# Altium schematic symbol library SIMBOLS_CPU_MCU.SchLib: 25 symbols
Pins are listed as number, name and electrical type; pins without a type are passive.

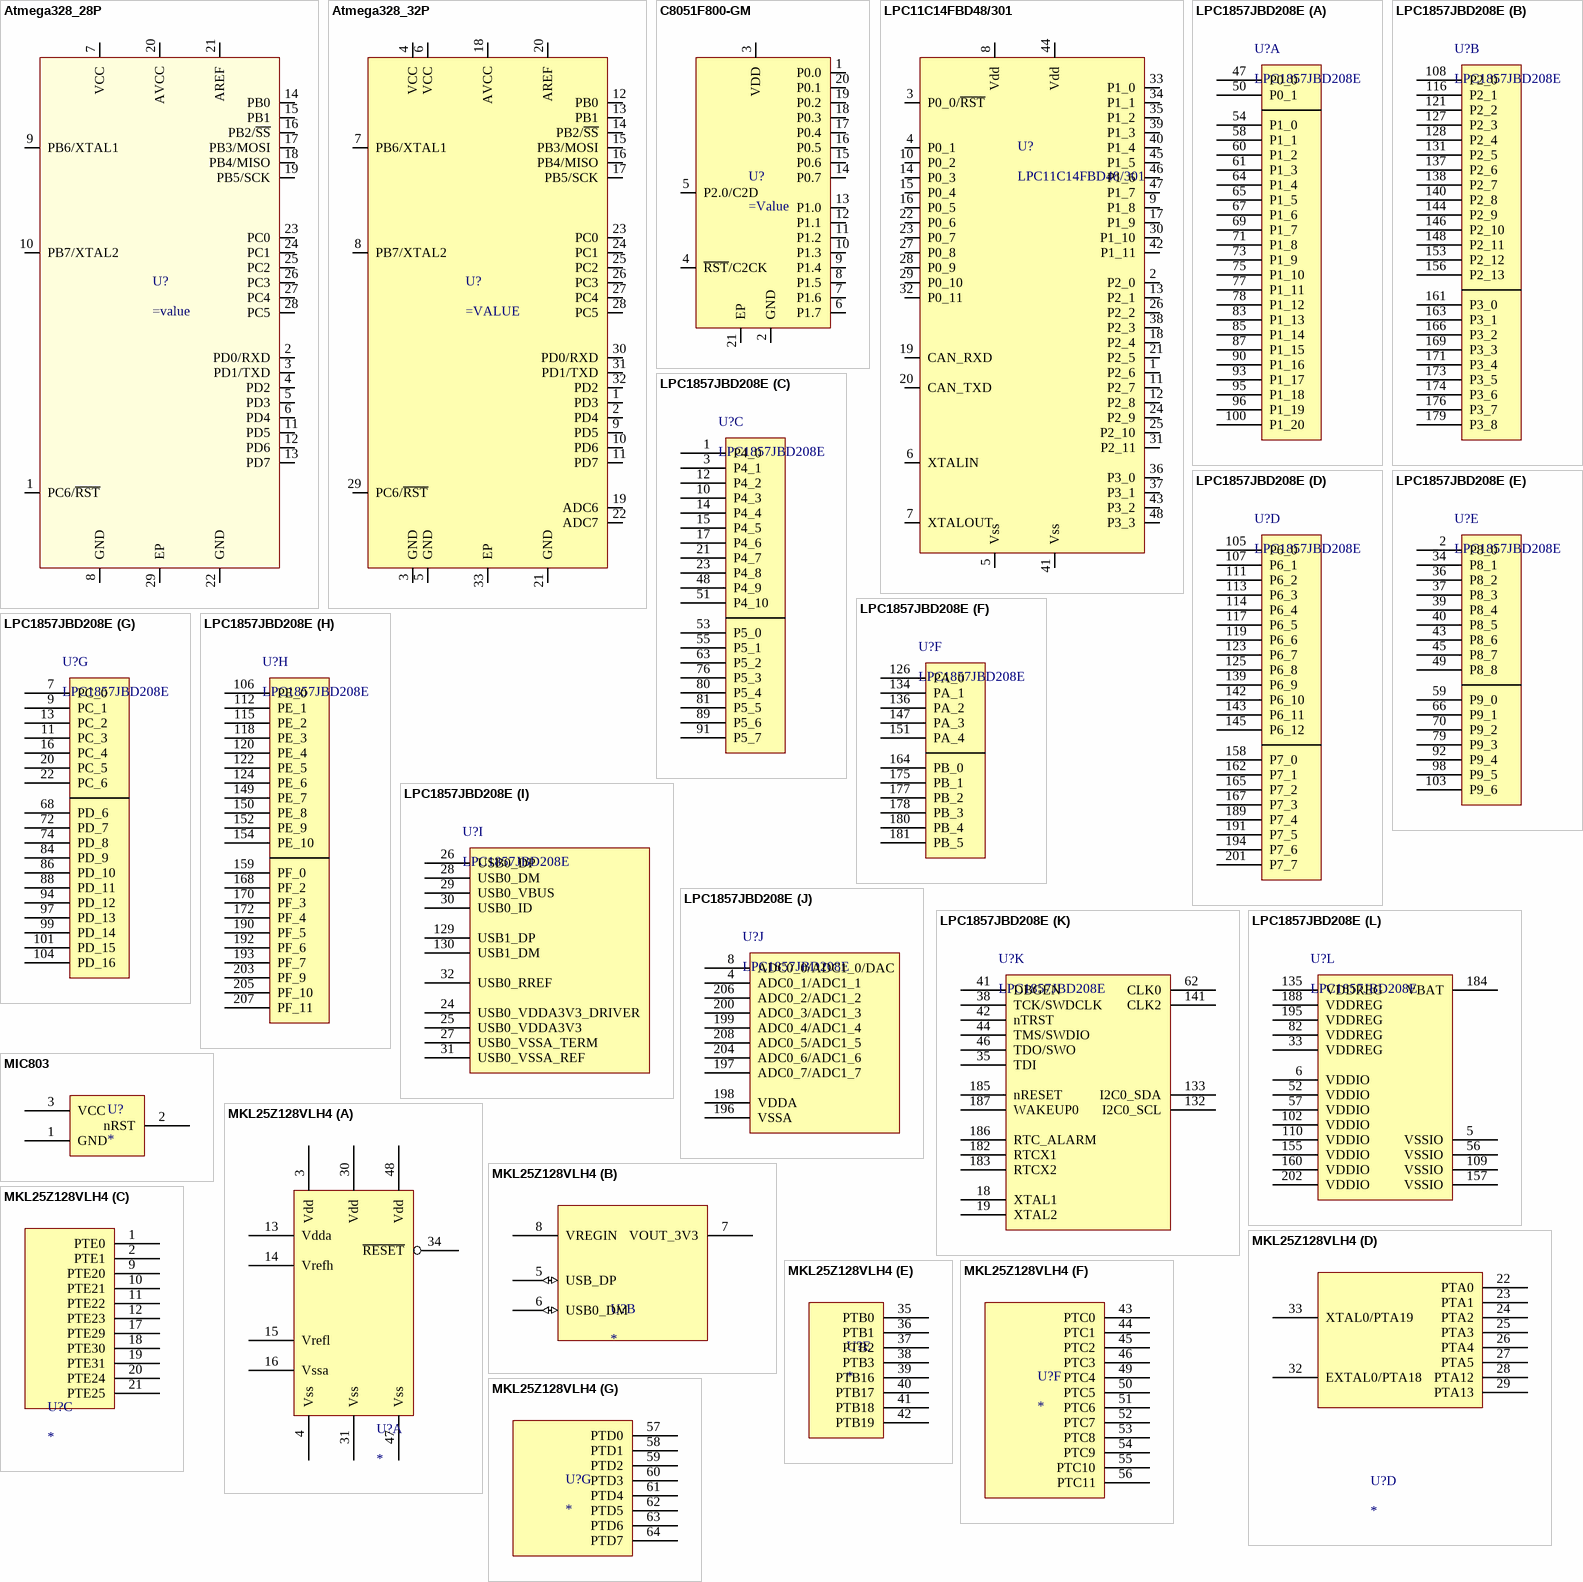
[diagram p0: symbols Atmega328_28P to MKL25Z128VLH4]

## Atmega328_28P
designator U?
pins: 1 PC6/~{RST}, 2 PD0/RXD, 3 PD1/TXD, 4 PD2, 5 PD3, 6 PD4, 7 VCC, 8 GND, 9 PB6/XTAL1, 10 PB7/XTAL2, 11 PD5, 12 PD6, 13 PD7, 14 PB0, 15 PB1, 16 PB2/~{SS}, 17 PB3/MOSI, 18 PB4/MISO, 19 PB5/SCK, 20 AVCC, 21 AREF, 22 GND, 23 PC0, 24 PC1, 25 PC2, 26 PC3, 27 PC4, 28 PC5, 29 EP

## Atmega328_32P
designator U?
pins: 1 PD3, 2 PD4, 3 GND, 4 VCC, 5 GND, 6 VCC, 7 PB6/XTAL1, 8 PB7/XTAL2, 9 PD5, 10 PD6, 11 PD7, 12 PB0, 13 PB1, 14 PB2/~{SS}, 15 PB3/MOSI, 16 PB4/MISO, 17 PB5/SCK, 18 AVCC, 19 ADC6, 20 AREF, 21 GND, 22 ADC7, 23 PC0, 24 PC1, 25 PC2, 26 PC3, 27 PC4, 28 PC5, 29 PC6/~{RST}, 30 PD0/RXD, 31 PD1/TXD, 32 PD2, 33 EP

## C8051F800-GM
designator U?
pins: 1 P0.0, 2 GND, 3 VDD, 4 ~{RST}/C2CK, 5 P2.0/C2D, 6 P1.7, 7 P1.6, 8 P1.5, 9 P1.4, 10 P1.3, 11 P1.2, 12 P1.1, 13 P1.0, 14 P0.7, 15 P0.6, 16 P0.5, 17 P0.4, 18 P0.3, 19 P0.2, 20 P0.1, 21 EP

## LPC11C14FBD48/301
designator U?
footprint SQFP50P900X900-48M (Shrink QFP, 48-Leads, Body 7x7mm, Pitch 0.5mm, IPC Low Density)
pins: 1 P2_6, 2 P2_0, 3 P0_0/~{RST}, 4 P0_1, 5 Vss, 6 XTALIN, 7 XTALOUT, 8 Vdd (power), 9 P1_8, 10 P0_2, 11 P2_7, 12 P2_8, 13 P2_1, 14 P0_3, 15 P0_4, 16 P0_5, 17 P1_9, 18 P2_4, 19 CAN_RXD, 20 CAN_TXD, 21 P2_5, 22 P0_6, 23 P0_7, 24 P2_9, 25 P2_10, 26 P2_2, 27 P0_8, 28 P0_9, 29 P0_10, 30 P1_10, 31 P2_11, 32 P0_11, 33 P1_0, 34 P1_1, 35 P1_2, 36 P3_0, 37 P3_1, 38 P2_3, 39 P1_3, 40 P1_4, 41 Vss, 42 P1_11, 43 P3_2, 44 Vdd (power), 45 P1_5, 46 P1_6, 47 P1_7, 48 P3_3

## LPC1857JBD208E
designator U?
footprint SQFP50P3000X3000-208N (Shrink QFP, 208-Leads, Body 28x28mm, Pitch 0.5mm, IPC Medium Density)
part A pins: 47 P0_0, 50 P0_1, 54 P1_0, 58 P1_1, 60 P1_2, 61 P1_3, 64 P1_4, 65 P1_5, 67 P1_6, 69 P1_7, 71 P1_8, 73 P1_9, 75 P1_10, 77 P1_11, 78 P1_12, 83 P1_13, 85 P1_14, 87 P1_15, 90 P1_16, 93 P1_17, 95 P1_18, 96 P1_19, 100 P1_20
part B pins: 108 P2_0, 116 P2_1, 121 P2_2, 127 P2_3, 128 P2_4, 131 P2_5, 137 P2_6, 138 P2_7, 140 P2_8, 144 P2_9, 146 P2_10, 148 P2_11, 153 P2_12, 156 P2_13, 161 P3_0, 163 P3_1, 166 P3_2, 169 P3_3, 171 P3_4, 173 P3_5, 174 P3_6, 176 P3_7, 179 P3_8
part C pins: 1 P4_0, 3 P4_1, 10 P4_3, 12 P4_2, 14 P4_4, 15 P4_5, 17 P4_6, 21 P4_7, 23 P4_8, 48 P4_9, 51 P4_10, 53 P5_0, 55 P5_1, 63 P5_2, 76 P5_3, 80 P5_4, 81 P5_5, 89 P5_6, 91 P5_7
part D pins: 105 P6_0, 107 P6_1, 111 P6_2, 113 P6_3, 114 P6_4, 117 P6_5, 119 P6_6, 123 P6_7, 125 P6_8, 139 P6_9, 142 P6_10, 143 P6_11, 145 P6_12, 158 P7_0, 162 P7_1, 165 P7_2, 167 P7_3, 189 P7_4, 191 P7_5, 194 P7_6, 201 P7_7
part E pins: 2 P8_0, 34 P8_1, 36 P8_2, 37 P8_3, 39 P8_4, 40 P8_5, 43 P8_6, 45 P8_7, 49 P8_8, 59 P9_0, 66 P9_1, 70 P9_2, 79 P9_3, 92 P9_4, 98 P9_5, 103 P9_6
part F pins: 126 PA_0, 134 PA_1, 136 PA_2, 147 PA_3, 151 PA_4, 164 PB_0, 175 PB_1, 177 PB_2, 178 PB_3, 180 PB_4, 181 PB_5
part G pins: 7 PC_0, 9 PC_1, 11 PC_3, 13 PC_2, 16 PC_4, 20 PC_5, 22 PC_6, 68 PD_6, 72 PD_7, 74 PD_8, 84 PD_9, 86 PD_10, 88 PD_11, 94 PD_12, 97 PD_13, 99 PD_14, 101 PD_15, 104 PD_16
part H pins: 106 PE_0, 112 PE_1, 115 PE_2, 118 PE_3, 120 PE_4, 122 PE_5, 124 PE_6, 149 PE_7, 150 PE_8, 152 PE_9, 154 PE_10, 159 PF_0, 168 PF_2, 170 PF_3, 172 PF_4, 190 PF_5, 192 PF_6, 193 PF_7, 203 PF_9, 205 PF_10, 207 PF_11
part I pins: 24 USB0_VDDA3V3_DRIVER, 25 USB0_VDDA3V3, 26 USB0_DP, 27 USB0_VSSA_TERM, 28 USB0_DM, 29 USB0_VBUS, 30 USB0_ID, 31 USB0_VSSA_REF, 32 USB0_RREF, 129 USB1_DP, 130 USB1_DM
part J pins: 4 ADC0_1/ADC1_1, 8 ADC0_0/ADC1_0/DAC, 196 VSSA, 197 ADC0_7/ADC1_7, 198 VDDA, 199 ADC0_4/ADC1_4, 200 ADC0_3/ADC1_3, 204 ADC0_6/ADC1_6, 206 ADC0_2/ADC1_2, 208 ADC0_5/ADC1_5
part K pins: 18 XTAL1, 19 XTAL2, 35 TDI, 38 TCK/SWDCLK, 41 DBGEN, 42 nTRST, 44 TMS/SWDIO, 46 TDO/SWO, 62 CLK0, 132 I2C0_SCL, 133 I2C0_SDA, 141 CLK2, 182 RTCX1, 183 RTCX2, 185 nRESET, 186 RTC_ALARM, 187 WAKEUP0
part L pins: 5 VSSIO, 6 VDDIO, 33 VDDREG, 52 VDDIO, 56 VSSIO, 57 VDDIO, 82 VDDREG, 102 VDDIO, 109 VSSIO, 110 VDDIO, 135 VDDREG, 155 VDDIO, 157 VSSIO, 160 VDDIO, 184 VBAT, 188 VDDREG, 195 VDDREG, 202 VDDIO

## MIC803
designator U?
VOLTAGE SUPERVISOR; 140ms minimum: reset dalay
footprint SOT323-3AN (SOT323, 3-Leads, Body 2.0x1.3mm, Pitch 0.65mm, Lead Span 2.1mm, IPC Medium Density)
pins: 1 GND, 2 nRST, 3 VCC

## MKL25Z128VLH4
designator U?
MKL25Z128VLH4; Supplier 1: Farnell; Supplier Part Number 1: 2293926
footprint TSQFP50P1200X1200-64L (Thin QFP, 64-Leads, Body 10x10mm, Pitch 0.5mm, IPC High Density)
part A pins: 3 Vdd (power), 4 Vss, 13 Vdda (power), 14 Vrefh, 15 Vrefl, 16 Vssa, 30 Vdd (power), 31 Vss, 34 ~{RESET}, 47 Vss (power), 48 Vdd
part B pins: 5 USB_DP (io), 6 USB0_DM (io), 7 VOUT_3V3 (power), 8 VREGIN (power)
part C pins: 1 PTE0, 2 PTE1, 9 PTE20, 10 PTE21, 11 PTE22, 12 PTE23, 17 PTE29, 18 PTE30, 19 PTE31, 20 PTE24, 21 PTE25
part D pins: 22 PTA0, 23 PTA1, 24 PTA2, 25 PTA3, 26 PTA4, 27 PTA5, 28 PTA12, 29 PTA13, 32 EXTAL0/PTA18, 33 XTAL0/PTA19
part E pins: 35 PTB0, 36 PTB1, 37 PTB2, 38 PTB3, 39 PTB16, 40 PTB17, 41 PTB18, 42 PTB19
part F pins: 43 PTC0, 44 PTC1, 45 PTC2, 46 PTC3, 49 PTC4, 50 PTC5, 51 PTC6, 52 PTC7, 53 PTC8, 54 PTC9, 55 PTC10, 56 PTC11
part G pins: 57 PTD0, 58 PTD1, 59 PTD2, 60 PTD3, 61 PTD4, 62 PTD5, 63 PTD6, 64 PTD7

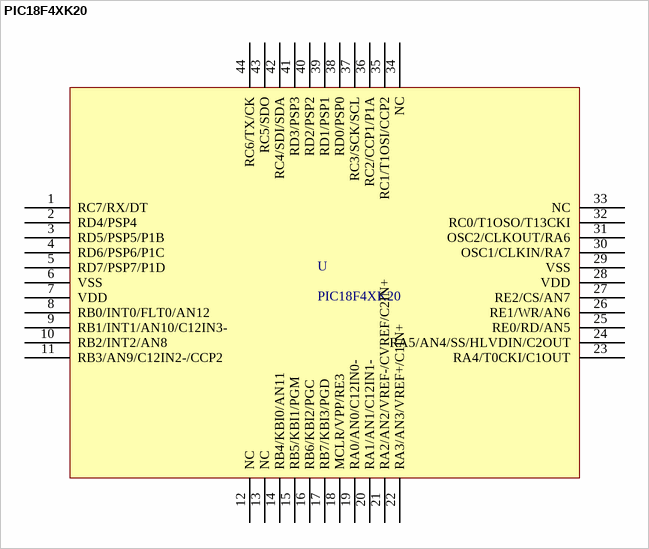
[diagram p1: symbol PIC18F4XK20]

## PIC18F4XK20
designator U
footprint TQFP80P1200X1200-44AN (Thin QFP, 44-Leads, Body 10x10mm, Pitch 0.8mm, IPC Medium Density)
pins: 1 RC7/RX/DT, 2 RD4/PSP4, 3 RD5/PSP5/P1B, 4 RD6/PSP6/P1C, 5 RD7/PSP7/P1D, 6 VSS, 7 VDD, 8 RB0/INT0/FLT0/AN12, 9 RB1/INT1/AN10/C12IN3-, 10 RB2/INT2/AN8, 11 RB3/AN9/C12IN2-/CCP2, 12 NC, 13 NC, 14 RB4/KBI0/AN11, 15 RB5/KBI1/PGM, 16 RB6/KBI2/PGC, 17 RB7/KBI3/PGD, 18 MCLR/VPP/RE3, 19 RA0/AN0/C12IN0-, 20 RA1/AN1/C12IN1-, 21 RA2/AN2/VREF-/CVREF/C2IN+, 22 RA3/AN3/VREF+/C1IN+, 23 RA4/T0CKI/C1OUT, 24 RA5/AN4/SS/HLVDIN/C2OUT, 25 RE0/RD/AN5, 26 RE1/WR/AN6, 27 RE2/CS/AN7, 28 VDD, 29 VSS, 30 OSC1/CLKIN/RA7, 31 OSC2/CLKOUT/RA6, 32 RC0/T1OSO/T13CKI, 33 NC, 34 NC, 35 RC1/T1OSI/CCP2, 36 RC2/CCP1/P1A, 37 RC3/SCK/SCL, 38 RD0/PSP0, 39 RD1/PSP1, 40 RD2/PSP2, 41 RD3/PSP3, 42 RC4/SDI/SDA, 43 RC5/SDO, 44 RC6/TX/CK

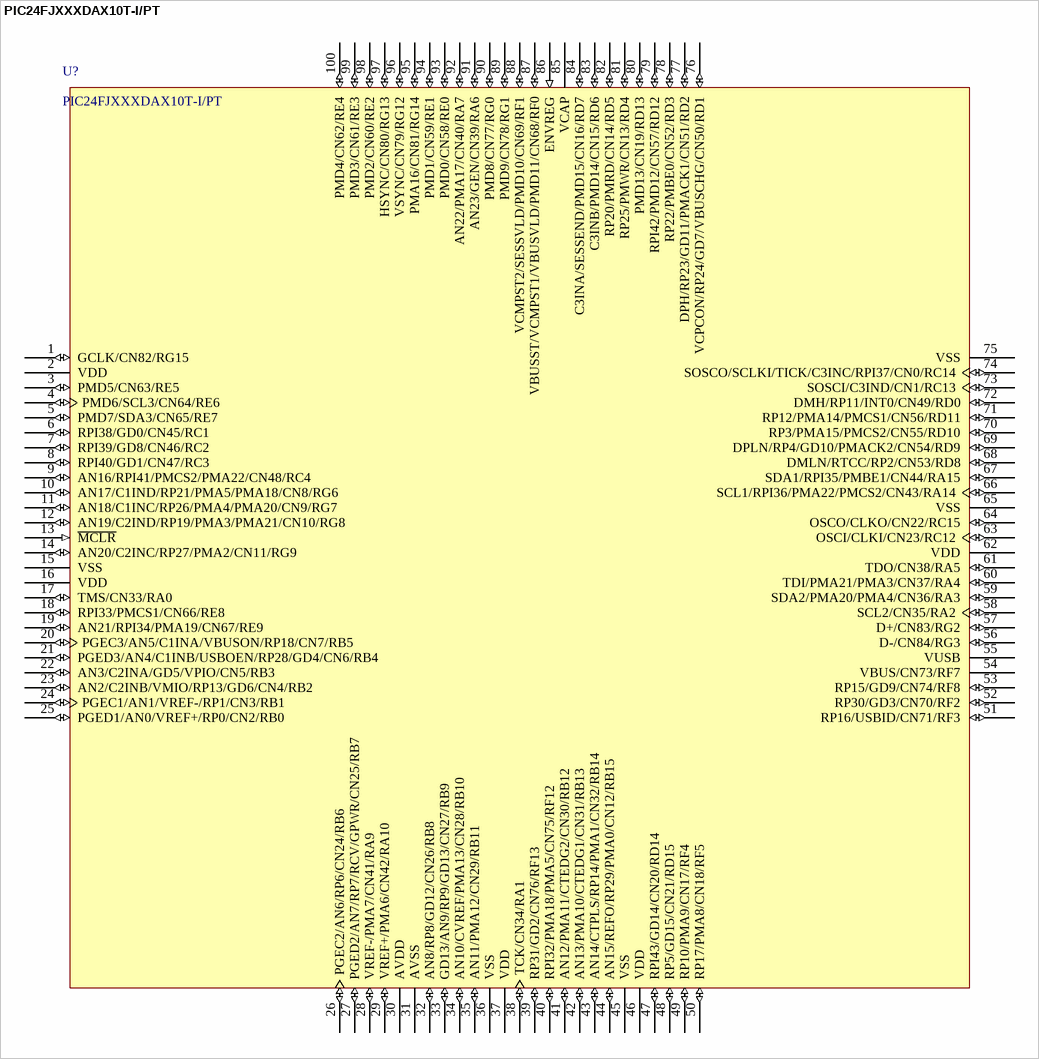
[diagram p2: symbol PIC24FJXXXDAX10T-I/PT]

## PIC24FJXXXDAX10T-I/PT
designator U?
Published: 29-Jan-2009; DatasheetVersion: revB, Mar-2008; PackageVersion: revAW, Oct-2008; PackageReference: TQFP-PT100; Publisher: Altium Limited; PackageDescription: 100-Lead Plastic Thin Quad Flatpack (PT) - 12x12x1mm Body, 2.00mm [TQFP]; ComponentLink1Description: Manufacturer Link; ComponentLink1URL: http://www.microchip.com; ComponentLink2Description: Datasheet; ComponentLink2URL: http://ww1.microchip.com/downloads/en/DeviceDoc/39897b.pdf; ComponentLink3Description: Packaging Specification; ComponentLink3URL: http://ww1.microchip.com/downloads/en/PackagingSpec/00049AW.pdf
footprint TQFP-PT100_N (Thin QFP, 100-Leads, Body 12x12mm, Pitch 0.4mm, IPC Medium Density)
footprint TQFP-PT100_L (Thin QFP, 100-Leads, Body 12x12mm, Pitch 0.4mm, IPC High Density)
footprint TQFP-PT100_M (Thin QFP, 100-Leads, Body 12x12mm, Pitch 0.4mm, IPC Low Density)
pins: 1 GCLK/CN82/RG15 (io), 2 VDD (power), 3 PMD5/CN63/RE5 (io), 4 PMD6/SCL3/CN64/RE6 (io), 5 PMD7/SDA3/CN65/RE7 (io), 6 RPI38/GD0/CN45/RC1 (io), 7 RPI39/GD8/CN46/RC2 (io), 8 RPI40/GD1/CN47/RC3 (io), 9 AN16/RPI41/PMCS2/PMA22/CN48/RC4 (io), 10 AN17/C1IND/RP21/PMA5/PMA18/CN8/RG6 (io), 11 AN18/C1INC/RP26/PMA4/PMA20/CN9/RG7 (io), 12 AN19/C2IND/RP19/PMA3/PMA21/CN10/RG8 (io), 13 ~{MCLR} (in), 14 AN20/C2INC/RP27/PMA2/CN11/RG9 (io), 15 VSS (power), 16 VDD (power), 17 TMS/CN33/RA0 (io), 18 RPI33/PMCS1/CN66/RE8 (io), 19 AN21/RPI34/PMA19/CN67/RE9 (io), 20 PGEC3/AN5/C1INA/VBUSON/RP18/CN7/RB5 (io), 21 PGED3/AN4/C1INB/USBOEN/RP28/GD4/CN6/RB4 (io), 22 AN3/C2INA/GD5/VPIO/CN5/RB3 (io), 23 AN2/C2INB/VMIO/RP13/GD6/CN4/RB2 (io), 24 PGEC1/AN1/VREF-/RP1/CN3/RB1 (io), 25 PGED1/AN0/VREF+/RP0/CN2/RB0 (io), 26 PGEC2/AN6/RP6/CN24/RB6 (io), 27 PGED2/AN7/RP7/RCV/GPWR/CN25/RB7 (io), 28 VREF-/PMA7/CN41/RA9 (io), 29 VREF+/PMA6/CN42/RA10 (io), 30 AVDD (power), 31 AVSS (power), 32 AN8/RP8/GD12/CN26/RB8 (io), 33 GD13/AN9/RP9/GD13/CN27/RB9 (io), 34 AN10/CVREF/PMA13/CN28/RB10 (io), 35 AN11/PMA12/CN29/RB11 (io), 36 VSS (power), 37 VDD (power), 38 TCK/CN34/RA1 (io), 39 RP31/GD2/CN76/RF13 (io), 40 RPI32/PMA18/PMA5/CN75/RF12 (io), 41 AN12/PMA11/CTEDG2/CN30/RB12 (io), 42 AN13/PMA10/CTEDG1/CN31/RB13 (io), 43 AN14/CTPLS/RP14/PMA1/CN32/RB14 (io), 44 AN15/REFO/RP29/PMA0/CN12/RB15 (io), 45 VSS (power), 46 VDD (power), 47 RPI43/GD14/CN20/RD14 (io), 48 RP5/GD15/CN21/RD15 (io), 49 RP10/PMA9/CN17/RF4 (io), 50 RP17/PMA8/CN18/RF5 (io), 51 RP16/USBID/CN71/RF3 (io), 52 RP30/GD3/CN70/RF2 (io), 53 RP15/GD9/CN74/RF8 (io), 54 VBUS/CN73/RF7 (power), 55 VUSB (power), 56 D-/CN84/RG3 (io), 57 D+/CN83/RG2 (io), 58 SCL2/CN35/RA2 (io), 59 SDA2/PMA20/PMA4/CN36/RA3 (io), 60 TDI/PMA21/PMA3/CN37/RA4 (io), 61 TDO/CN38/RA5 (io), 62 VDD (power), 63 OSCI/CLKI/CN23/RC12 (io), 64 OSCO/CLKO/CN22/RC15 (io), 65 VSS (power), 66 SCL1/RPI36/PMA22/PMCS2/CN43/RA14 (io), 67 SDA1/RPI35/PMBE1/CN44/RA15 (io), 68 DMLN/RTCC/RP2/CN53/RD8 (io), 69 DPLN/RP4/GD10/PMACK2/CN54/RD9 (io), 70 RP3/PMA15/PMCS2/CN55/RD10 (io), 71 RP12/PMA14/PMCS1/CN56/RD11 (io), 72 DMH/RP11/INT0/CN49/RD0 (io), 73 SOSCI/C3IND/CN1/RC13 (io), 74 SOSCO/SCLKI/TICK/C3INC/RPI37/CN0/RC14 (io), 75 VSS (power), 76 VCPCON/RP24/GD7/VBUSCHG/CN50/RD1 (io), 77 DPH/RP23/GD11/PMACK1/CN51/RD2 (io), 78 RP22/PMBE0/CN52/RD3 (io), 79 RPI42/PMD12/CN57/RD12 (io), 80 PMD13/CN19/RD13 (io), 81 RP25/PMWR/CN13/RD4 (io), 82 RP20/PMRD/CN14/RD5 (io), 83 C3INB/PMD14/CN15/RD6 (io), 84 C3INA/SESSEND/PMD15/CN16/RD7 (io), 85 VCAP (power), 86 ENVREG (in), 87 VBUSST/VCMPST1/VBUSVLD/PMD11/CN68/RF0 (io), 88 VCMPST2/SESSVLD/PMD10/CN69/RF1 (io), 89 PMD9/CN78/RG1 (io), 90 PMD8/CN77/RG0 (io), 91 AN23/GEN/CN39/RA6 (io), 92 AN22/PMA17/CN40/RA7 (io), 93 PMD0/CN58/RE0 (io), 94 PMD1/CN59/RE1 (io), 95 PMA16/CN81/RG14 (io), 96 VSYNC/CN79/RG12 (io), 97 HSYNC/CN80/RG13 (io), 98 PMD2/CN60/RE2 (io), 99 PMD3/CN61/RE3 (io), 100 PMD4/CN62/RE4 (io)

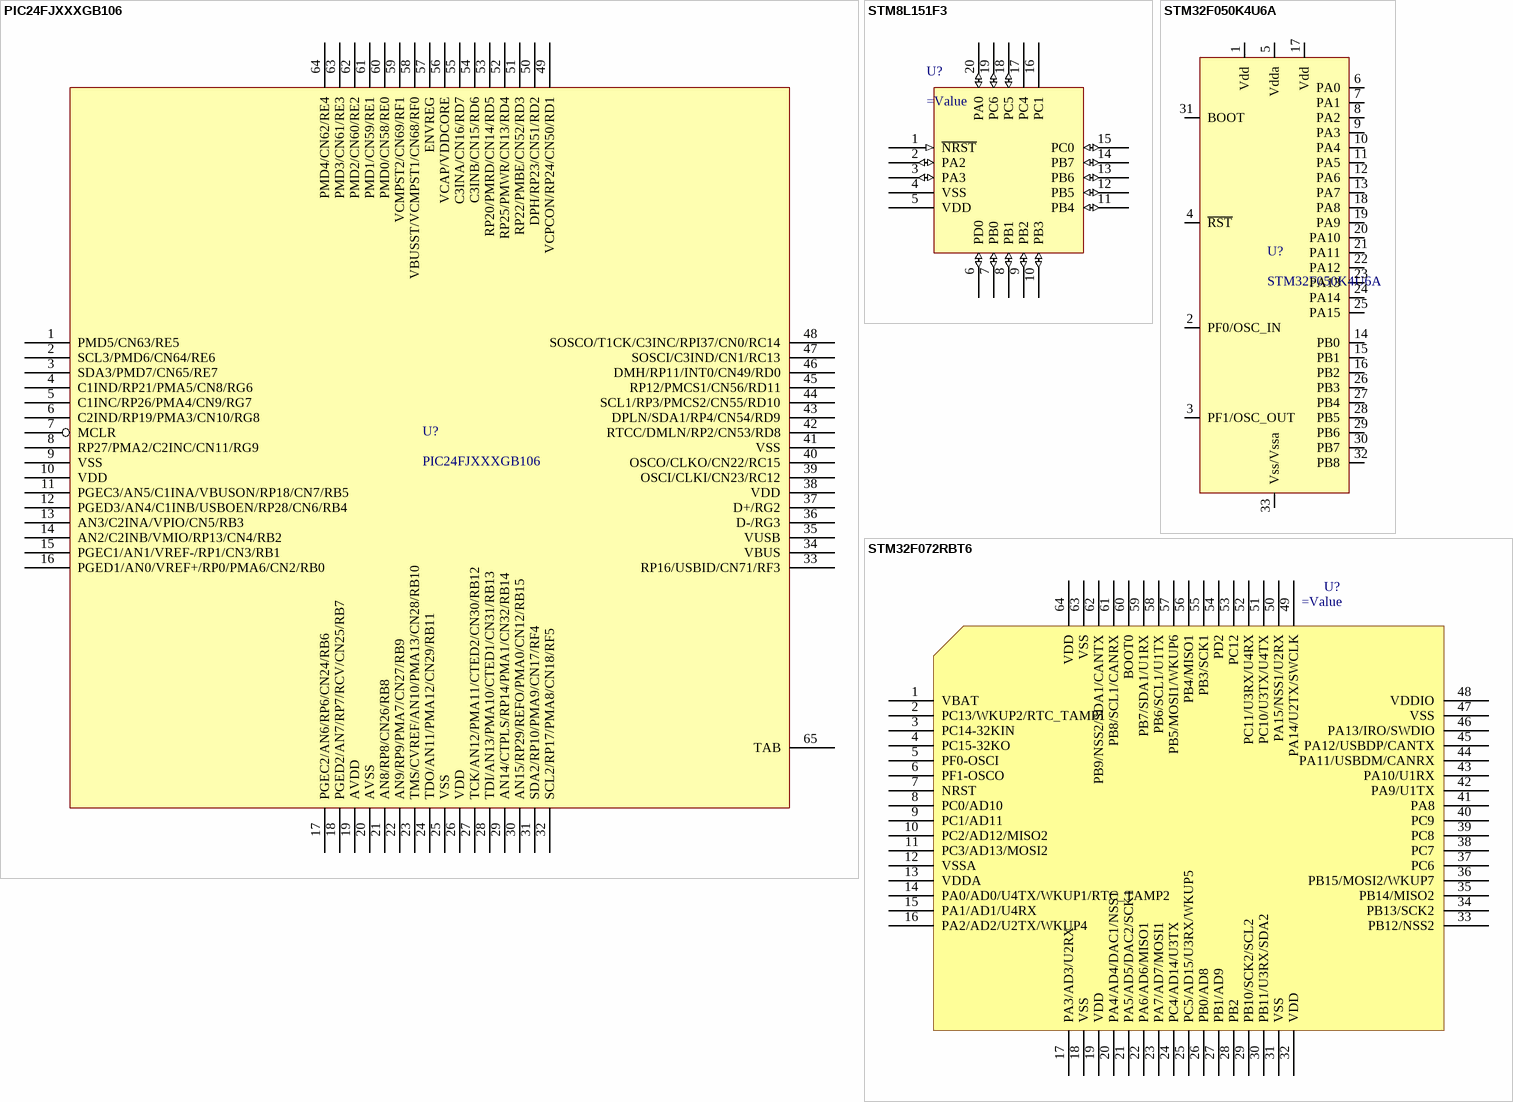
[diagram p3: symbols PIC24FJXXXGB106 to STM32F072RBT6]

## PIC24FJXXXGB106
designator U?
footprint QFN64_9x9
pins: 1 PMD5/CN63/RE5, 2 SCL3/PMD6/CN64/RE6, 3 SDA3/PMD7/CN65/RE7, 4 C1IND/RP21/PMA5/CN8/RG6, 5 C1INC/RP26/PMA4/CN9/RG7, 6 C2IND/RP19/PMA3/CN10/RG8, 7 MCLR, 8 RP27/PMA2/C2INC/CN11/RG9, 9 VSS, 10 VDD, 11 PGEC3/AN5/C1INA/VBUSON/RP18/CN7/RB5, 12 PGED3/AN4/C1INB/USBOEN/RP28/CN6/RB4, 13 AN3/C2INA/VPIO/CN5/RB3, 14 AN2/C2INB/VMIO/RP13/CN4/RB2, 15 PGEC1/AN1/VREF-/RP1/CN3/RB1, 16 PGED1/AN0/VREF+/RP0/PMA6/CN2/RB0, 17 PGEC2/AN6/RP6/CN24/RB6, 18 PGED2/AN7/RP7/RCV/CN25/RB7, 19 AVDD, 20 AVSS, 21 AN8/RP8/CN26/RB8, 22 AN9/RP9/PMA7/CN27/RB9, 23 TMS/CVREF/AN10/PMA13/CN28/RB10, 24 TDO/AN11/PMA12/CN29/RB11, 25 VSS, 26 VDD, 27 TCK/AN12/PMA11/CTED2/CN30/RB12, 28 TDI/AN13/PMA10/CTED1/CN31/RB13, 29 AN14/CTPLS/RP14/PMA1/CN32/RB14, 30 AN15/RP29/REFO/PMA0/CN12/RB15, 31 SDA2/RP10/PMA9/CN17/RF4, 32 SCL2/RP17/PMA8/CN18/RF5, 33 RP16/USBID/CN71/RF3, 34 VBUS, 35 VUSB, 36 D-/RG3, 37 D+/RG2, 38 VDD, 39 OSCI/CLKI/CN23/RC12, 40 OSCO/CLKO/CN22/RC15, 41 VSS, 42 RTCC/DMLN/RP2/CN53/RD8, 43 DPLN/SDA1/RP4/CN54/RD9, 44 SCL1/RP3/PMCS2/CN55/RD10, 45 RP12/PMCS1/CN56/RD11, 46 DMH/RP11/INT0/CN49/RD0, 47 SOSCI/C3IND/CN1/RC13, 48 SOSCO/T1CK/C3INC/RPI37/CN0/RC14, 49 VCPCON/RP24/CN50/RD1, 50 DPH/RP23/CN51/RD2, 51 RP22/PMBE/CN52/RD3, 52 RP25/PMWR/CN13/RD4, 53 RP20/PMRD/CN14/RD5, 54 C3INB/CN15/RD6, 55 C3INA/CN16/RD7, 56 VCAP/VDDCORE, 57 ENVREG, 58 VBUSST/VCMPST1/CN68/RF0, 59 VCMPST2/CN69/RF1, 60 PMD0/CN58/RE0, 61 PMD1/CN59/RE1, 62 PMD2/CN60/RE2, 63 PMD3/CN61/RE3, 64 PMD4/CN62/RE4, 65 TAB

## STM8L151F3
designator U?
pins: 1 ~{NRST} (in), 2 PA2 (io), 3 PA3 (io), 4 VSS (power), 5 VDD (power), 6 PD0 (io), 7 PB0 (io), 8 PB1 (io), 9 PB2 (io), 10 PB3 (io), 11 PB4 (io), 12 PB5 (io), 13 PB6 (io), 14 PB7 (io), 15 PC0 (io), 16 PC1 (power), 17 PC4 (power), 18 PC5 (io), 19 PC6 (io), 20 PA0 (io)

## STM32F050K4U6A
designator U?
footprint UFQFPN32
pins: 1 Vdd, 2 PF0/OSC_IN, 3 PF1/OSC_OUT, 4 ~{RST}, 5 Vdda, 6 PA0, 7 PA1, 8 PA2, 9 PA3, 10 PA4, 11 PA5, 12 PA6, 13 PA7, 14 PB0, 15 PB1, 16 PB2, 17 Vdd, 18 PA8, 19 PA9, 20 PA10, 21 PA11, 22 PA12, 23 PA13, 24 PA14, 25 PA15, 26 PB3, 27 PB4, 28 PB5, 29 PB6, 30 PB7, 31 BOOT, 32 PB8, 33 Vss/Vssa

## STM32F072RBT6
designator U?
STM32 cortex M0+ series; Revised: 120406; target: BASE
footprint LQFP64_10x10 (64 pin LQFP (10 x 10))
pins: 1 VBAT, 2 PC13/WKUP2/RTC_TAMP1, 3 PC14-32KIN, 4 PC15-32KO, 5 PF0-OSCI, 6 PF1-OSCO, 7 NRST, 8 PC0/AD10, 9 PC1/AD11, 10 PC2/AD12/MISO2, 11 PC3/AD13/MOSI2, 12 VSSA, 13 VDDA, 14 PA0/AD0/U4TX/WKUP1/RTC_TAMP2, 15 PA1/AD1/U4RX, 16 PA2/AD2/U2TX/WKUP4, 17 PA3/AD3/U2RX, 18 VSS, 19 VDD, 20 PA4/AD4/DAC1/NSS1, 21 PA5/AD5/DAC2/SCK1, 22 PA6/AD6/MISO1, 23 PA7/AD7/MOSI1, 24 PC4/AD14/U3TX, 25 PC5/AD15/U3RX/WKUP5, 26 PB0/AD8, 27 PB1/AD9, 28 PB2, 29 PB10/SCK2/SCL2, 30 PB11/U3RX/SDA2, 31 VSS, 32 VDD, 33 PB12/NSS2, 34 PB13/SCK2, 35 PB14/MISO2, 36 PB15/MOSI2/WKUP7, 37 PC6, 38 PC7, 39 PC8, 40 PC9, 41 PA8, 42 PA9/U1TX, 43 PA10/U1RX, 44 PA11/USBDM/CANRX, 45 PA12/USBDP/CANTX, 46 PA13/IRO/SWDIO, 47 VSS, 48 VDDIO, 49 PA14/U2TX/SWCLK, 50 PA15/NSS1/U2RX, 51 PC10/U3TX/U4TX, 52 PC11/U3RX/U4RX, 53 PC12, 54 PD2, 55 PB3/SCK1, 56 PB4/MISO1, 57 PB5/MOSI1/WKUP6, 58 PB6/SCL1/U1TX, 59 PB7/SDA1/U1RX, 60 BOOT0, 61 PB8/SCL1/CANRX, 62 PB9/NSS2/SDA1/CANTX, 63 VSS, 64 VDD

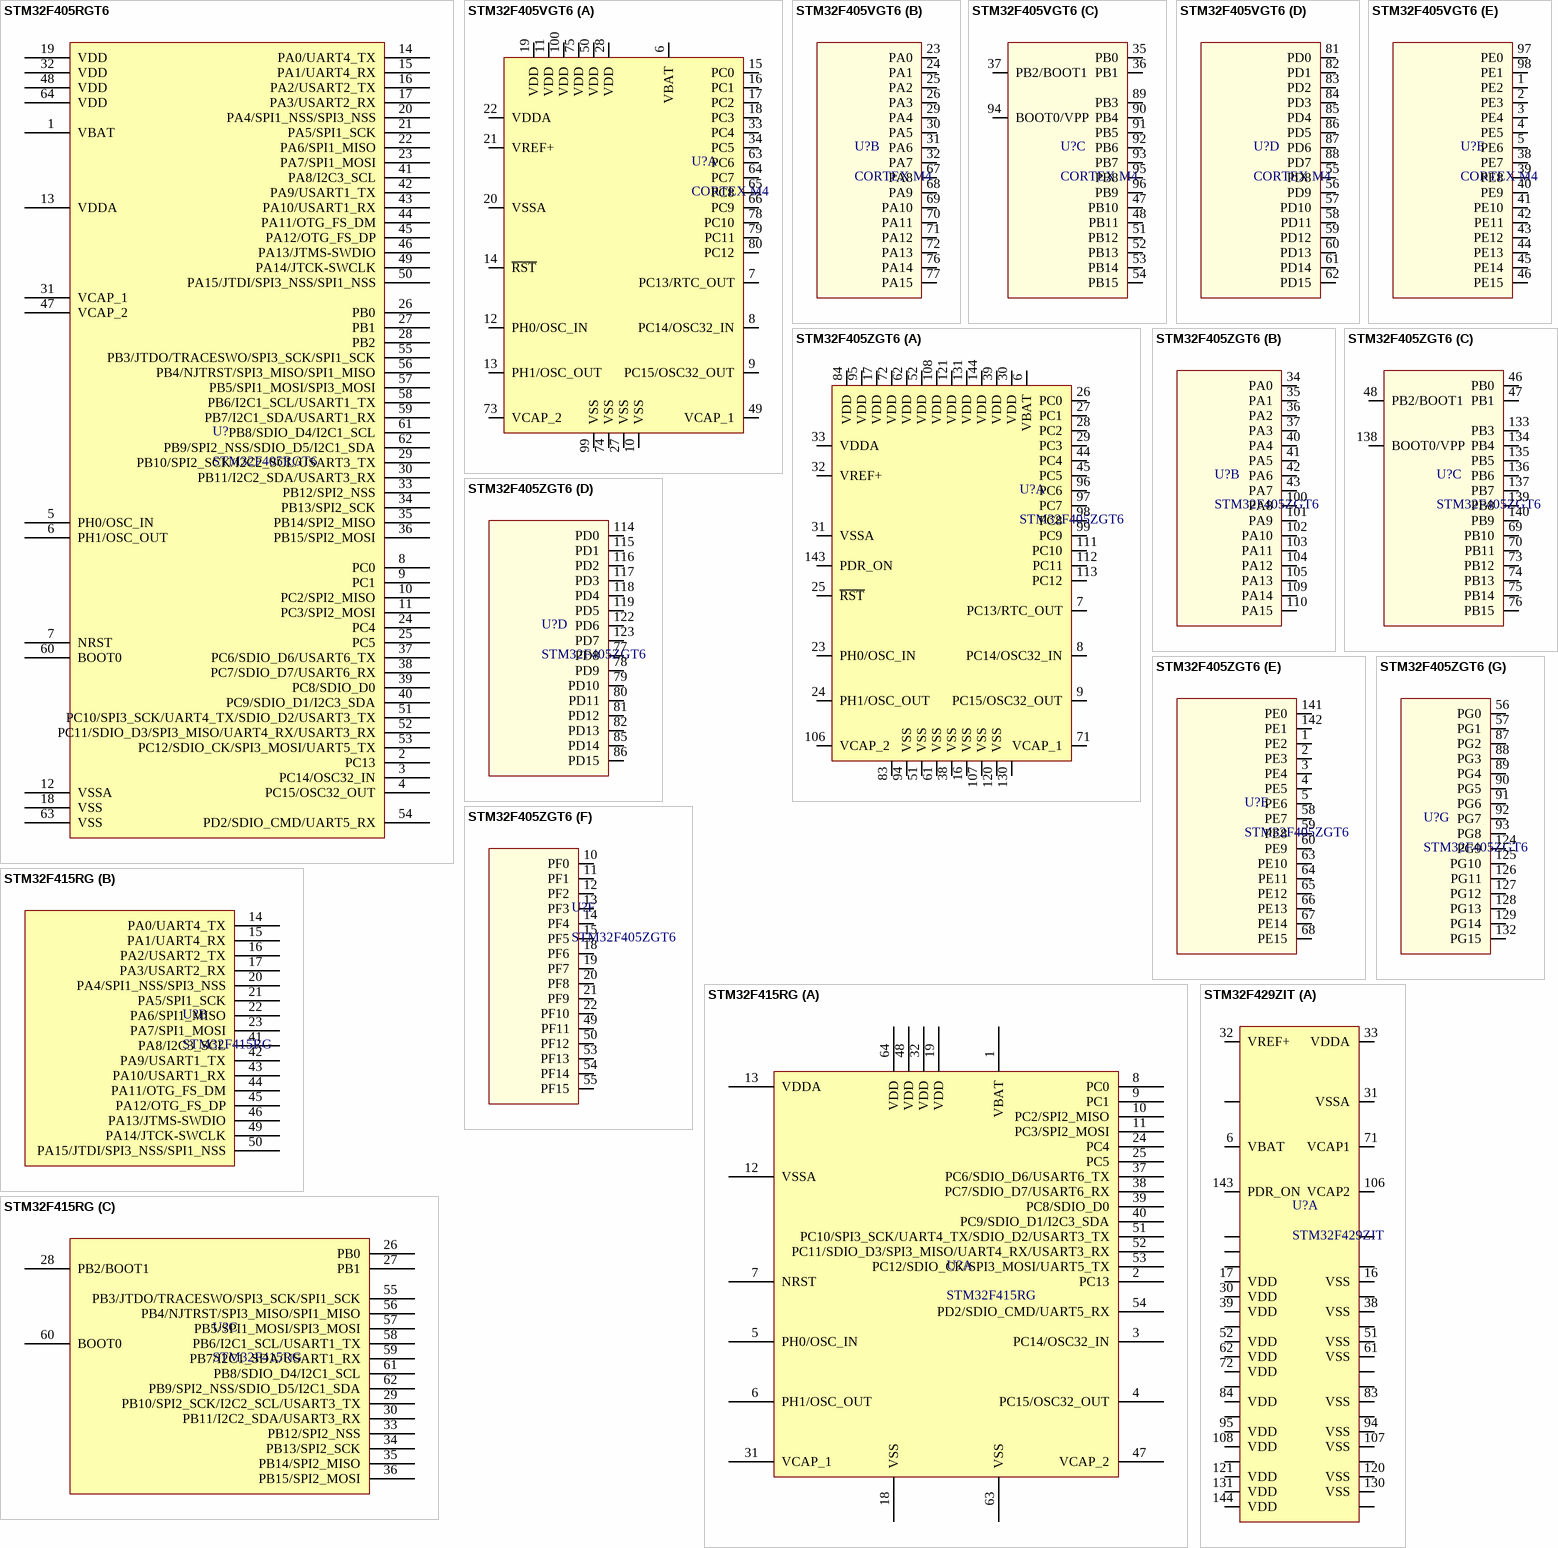
[diagram p4: symbols STM32F405RGT6 to STM32F429ZIT]

## STM32F405RGT6
designator U?
footprint SQFP50P1200X1200-64N (Shrink QFP, 64-Leads, Body 10x10mm, Pitch 0.5mm, IPC Medium Density)
pins: 1 VBAT, 2 PC13, 3 PC14/OSC32_IN, 4 PC15/OSC32_OUT, 5 PH0/OSC_IN, 6 PH1/OSC_OUT, 7 NRST, 8 PC0, 9 PC1, 10 PC2/SPI2_MISO, 11 PC3/SPI2_MOSI, 12 VSSA, 13 VDDA, 14 PA0/UART4_TX, 15 PA1/UART4_RX, 16 PA2/USART2_TX, 17 PA3/USART2_RX, 18 VSS, 19 VDD, 20 PA4/SPI1_NSS/SPI3_NSS, 21 PA5/SPI1_SCK, 22 PA6/SPI1_MISO, 23 PA7/SPI1_MOSI, 24 PC4, 25 PC5, 26 PB0, 27 PB1, 28 PB2, 29 PB10/SPI2_SCK/I2C2_SCL/USART3_TX, 30 PB11/I2C2_SDA/USART3_RX, 31 VCAP_1, 32 VDD, 33 PB12/SPI2_NSS, 34 PB13/SPI2_SCK, 35 PB14/SPI2_MISO, 36 PB15/SPI2_MOSI, 37 PC6/SDIO_D6/USART6_TX, 38 PC7/SDIO_D7/USART6_RX, 39 PC8/SDIO_D0, 40 PC9/SDIO_D1/I2C3_SDA, 41 PA8/I2C3_SCL, 42 PA9/USART1_TX, 43 PA10/USART1_RX, 44 PA11/OTG_FS_DM, 45 PA12/OTG_FS_DP, 46 PA13/JTMS-SWDIO, 47 VCAP_2, 48 VDD, 49 PA14/JTCK-SWCLK, 50 PA15/JTDI/SPI3_NSS/SPI1_NSS, 51 PC10/SPI3_SCK/UART4_TX/SDIO_D2/USART3_TX, 52 PC11/SDIO_D3/SPI3_MISO/UART4_RX/USART3_RX, 53 PC12/SDIO_CK/SPI3_MOSI/UART5_TX, 54 PD2/SDIO_CMD/UART5_RX, 55 PB3/JTDO/TRACESWO/SPI3_SCK/SPI1_SCK, 56 PB4/NJTRST/SPI3_MISO/SPI1_MISO, 57 PB5/SPI1_MOSI/SPI3_MOSI, 58 PB6/I2C1_SCL/USART1_TX, 59 PB7/I2C1_SDA/USART1_RX, 60 BOOT0, 61 PB8/SDIO_D4/I2C1_SCL, 62 PB9/SPI2_NSS/SDIO_D5/I2C1_SDA, 63 VSS, 64 VDD

## STM32F405VGT6
designator U?, comment CORTEX M4
STM32F405VGT6
footprint LQFP100_L (Thin QFP, 100-Leads, Body 14x14mm, Pitch 0.5mm, IPC High Density)
part A pins: 6 VBAT, 7 PC13/RTC_OUT, 8 PC14/OSC32_IN, 9 PC15/OSC32_OUT, 10 VSS, 11 VDD, 12 PH0/OSC_IN, 13 PH1/OSC_OUT, 14 ~{RST}, 15 PC0, 16 PC1, 17 PC2, 18 PC3, 19 VDD, 20 VSSA, 21 VREF+, 22 VDDA, 27 VSS, 28 VDD, 33 PC4, 34 PC5, 49 VCAP_1, 50 VDD, 63 PC6, 64 PC7, 65 PC8, 66 PC9, 73 VCAP_2, 74 VSS, 75 VDD, 78 PC10, 79 PC11, 80 PC12, 99 VSS, 100 VDD
part B pins: 23 PA0, 24 PA1, 25 PA2, 26 PA3, 29 PA4, 30 PA5, 31 PA6, 32 PA7, 67 PA8, 68 PA9, 69 PA10, 70 PA11, 71 PA12, 72 PA13, 76 PA14, 77 PA15
part C pins: 35 PB0, 36 PB1, 37 PB2/BOOT1, 47 PB10, 48 PB11, 51 PB12, 52 PB13, 53 PB14, 54 PB15, 89 PB3, 90 PB4, 91 PB5, 92 PB6, 93 PB7, 94 BOOT0/VPP, 95 PB8, 96 PB9
part D pins: 55 PD8, 56 PD9, 57 PD10, 58 PD11, 59 PD12, 60 PD13, 61 PD14, 62 PD15, 81 PD0, 82 PD1, 83 PD2, 84 PD3, 85 PD4, 86 PD5, 87 PD6, 88 PD7
part E pins: 1 PE2, 2 PE3, 3 PE4, 4 PE5, 5 PE6, 38 PE7, 39 PE8, 40 PE9, 41 PE10, 42 PE11, 43 PE12, 44 PE13, 45 PE14, 46 PE15, 97 PE0, 98 PE1

## STM32F405ZGT6
designator U?
footprint SQFP50P2320x2320-144AL (Shrink QFP, 144-Leads, Body 20x20mm, Pitch 0.5mm, IPC High Density)
part A pins: 6 VBAT, 7 PC13/RTC_OUT, 8 PC14/OSC32_IN, 9 PC15/OSC32_OUT, 16 VSS, 17 VDD, 23 PH0/OSC_IN, 24 PH1/OSC_OUT, 25 ~{RST}, 26 PC0, 27 PC1, 28 PC2, 29 PC3, 30 VDD, 31 VSSA, 32 VREF+, 33 VDDA, 38 VSS, 39 VDD, 44 PC4, 45 PC5, 51 VSS, 52 VDD, 61 VSS, 62 VDD, 71 VCAP_1, 72 VDD, 83 VSS, 84 VDD, 94 VSS, 95 VDD, 96 PC6, 97 PC7, 98 PC8, 99 PC9, 106 VCAP_2, 107 VSS, 108 VDD, 111 PC10, 112 PC11, 113 PC12, 120 VSS, 121 VDD, 130 VSS, 131 VDD, 143 PDR_ON, 144 VDD
part B pins: 34 PA0, 35 PA1, 36 PA2, 37 PA3, 40 PA4, 41 PA5, 42 PA6, 43 PA7, 100 PA8, 101 PA9, 102 PA10, 103 PA11, 104 PA12, 105 PA13, 109 PA14, 110 PA15
part C pins: 46 PB0, 47 PB1, 48 PB2/BOOT1, 69 PB10, 70 PB11, 73 PB12, 74 PB13, 75 PB14, 76 PB15, 133 PB3, 134 PB4, 135 PB5, 136 PB6, 137 PB7, 138 BOOT0/VPP, 139 PB8, 140 PB9
part D pins: 77 PD8, 78 PD9, 79 PD10, 80 PD11, 81 PD12, 82 PD13, 85 PD14, 86 PD15, 114 PD0, 115 PD1, 116 PD2, 117 PD3, 118 PD4, 119 PD5, 122 PD6, 123 PD7
part E pins: 1 PE2, 2 PE3, 3 PE4, 4 PE5, 5 PE6, 58 PE7, 59 PE8, 60 PE9, 63 PE10, 64 PE11, 65 PE12, 66 PE13, 67 PE14, 68 PE15, 141 PE0, 142 PE1
part F pins: 10 PF0, 11 PF1, 12 PF2, 13 PF3, 14 PF4, 15 PF5, 18 PF6, 19 PF7, 20 PF8, 21 PF9, 22 PF10, 49 PF11, 50 PF12, 53 PF13, 54 PF14, 55 PF15
part G pins: 56 PG0, 57 PG1, 87 PG2, 88 PG3, 89 PG4, 90 PG5, 91 PG6, 92 PG7, 93 PG8, 124 PG9, 125 PG10, 126 PG11, 127 PG12, 128 PG13, 129 PG14, 132 PG15

## STM32F415RG
designator U?
footprint SQFP50P1200X1200-64N (Footprint not found)
part A pins: 1 VBAT, 2 PC13, 3 PC14/OSC32_IN, 4 PC15/OSC32_OUT, 5 PH0/OSC_IN, 6 PH1/OSC_OUT, 7 NRST, 8 PC0, 9 PC1, 10 PC2/SPI2_MISO, 11 PC3/SPI2_MOSI, 12 VSSA, 13 VDDA, 18 VSS, 19 VDD, 24 PC4, 25 PC5, 31 VCAP_1, 32 VDD, 37 PC6/SDIO_D6/USART6_TX, 38 PC7/SDIO_D7/USART6_RX, 39 PC8/SDIO_D0, 40 PC9/SDIO_D1/I2C3_SDA, 47 VCAP_2, 48 VDD, 51 PC10/SPI3_SCK/UART4_TX/SDIO_D2/USART3_TX, 52 PC11/SDIO_D3/SPI3_MISO/UART4_RX/USART3_RX, 53 PC12/SDIO_CK/SPI3_MOSI/UART5_TX, 54 PD2/SDIO_CMD/UART5_RX, 63 VSS, 64 VDD
part B pins: 14 PA0/UART4_TX, 15 PA1/UART4_RX, 16 PA2/USART2_TX, 17 PA3/USART2_RX, 20 PA4/SPI1_NSS/SPI3_NSS, 21 PA5/SPI1_SCK, 22 PA6/SPI1_MISO, 23 PA7/SPI1_MOSI, 41 PA8/I2C3_SCL, 42 PA9/USART1_TX, 43 PA10/USART1_RX, 44 PA11/OTG_FS_DM, 45 PA12/OTG_FS_DP, 46 PA13/JTMS-SWDIO, 49 PA14/JTCK-SWCLK, 50 PA15/JTDI/SPI3_NSS/SPI1_NSS
part C pins: 26 PB0, 27 PB1, 28 PB2/BOOT1, 29 PB10/SPI2_SCK/I2C2_SCL/USART3_TX, 30 PB11/I2C2_SDA/USART3_RX, 33 PB12/SPI2_NSS, 34 PB13/SPI2_SCK, 35 PB14/SPI2_MISO, 36 PB15/SPI2_MOSI, 55 PB3/JTDO/TRACESWO/SPI3_SCK/SPI1_SCK, 56 PB4/NJTRST/SPI3_MISO/SPI1_MISO, 57 PB5/SPI1_MOSI/SPI3_MOSI, 58 PB6/I2C1_SCL/USART1_TX, 59 PB7/I2C1_SDA/USART1_RX, 60 BOOT0, 61 PB8/SDIO_D4/I2C1_SCL, 62 PB9/SPI2_NSS/SDIO_D5/I2C1_SDA

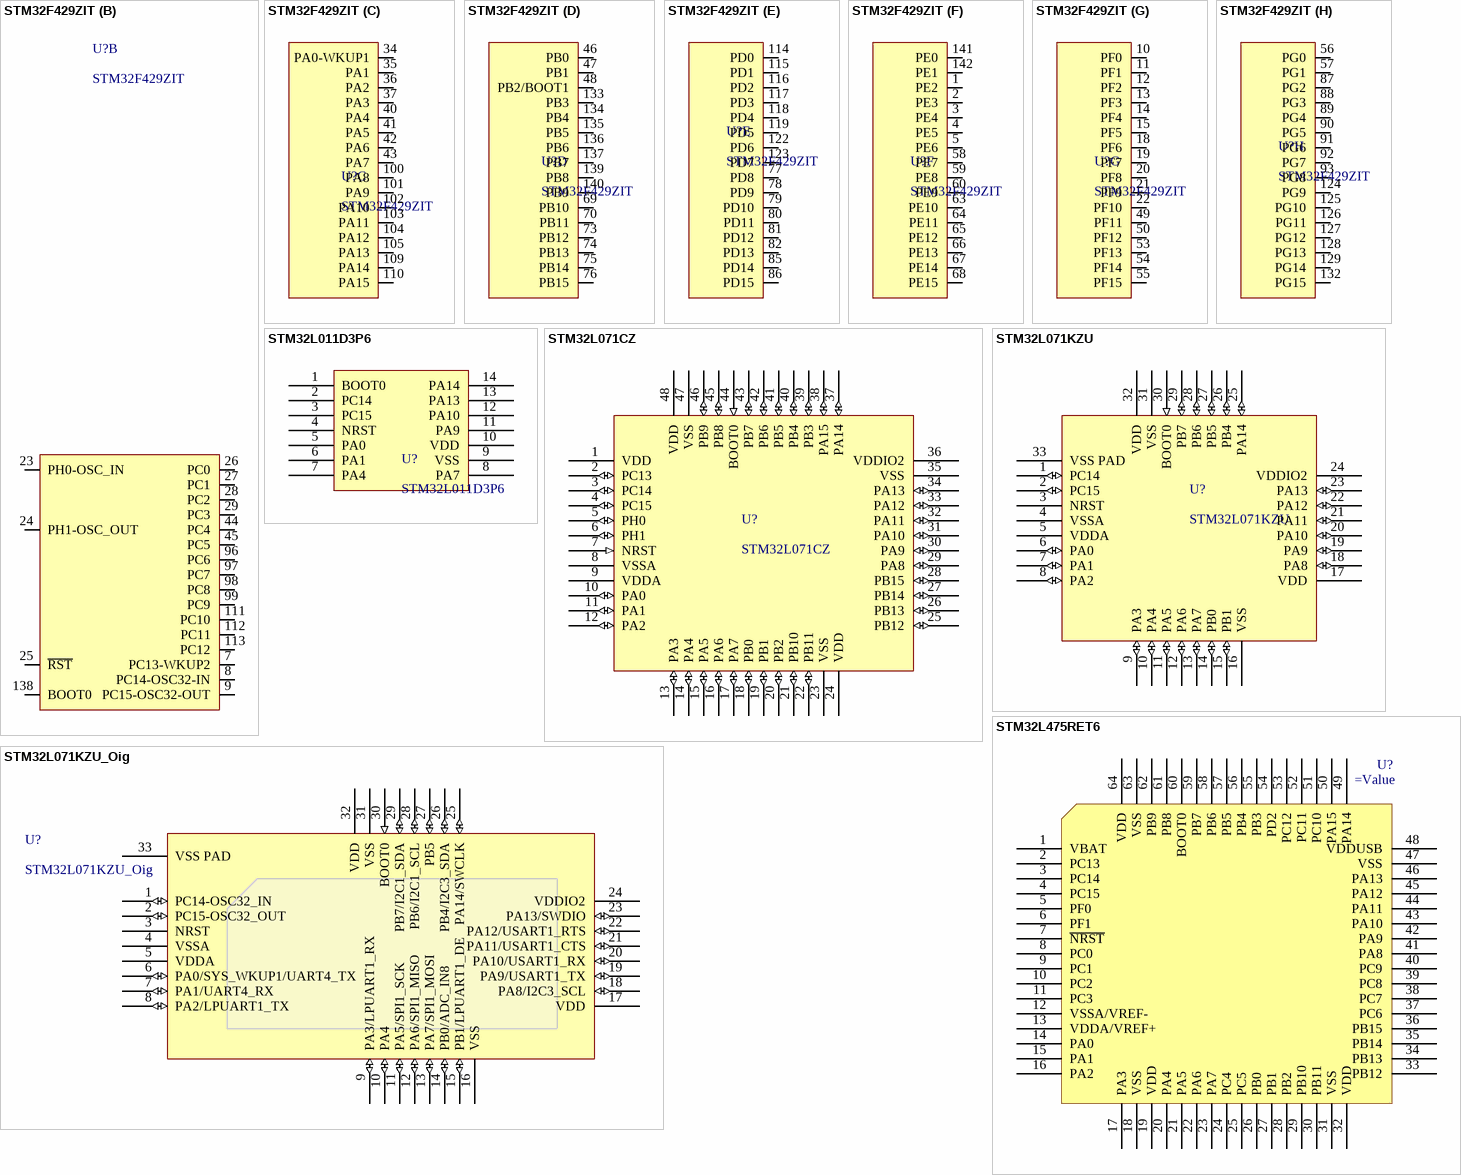
[diagram p5: symbols STM32F429ZIT to STM32L475RET6]

## STM32F429ZIT
designator U?
footprint QUAD.50M/144/WG22.60
part A pins: 6 VBAT, 16 VSS, 17 VDD, 30 VDD, 31 VSSA, 32 VREF+, 33 VDDA, 38 VSS, 39 VDD, 51 VSS, 52 VDD, 61 VSS, 62 VDD, 71 VCAP1, 72 VDD, 83 VSS, 84 VDD, 94 VSS, 95 VDD, 106 VCAP2, 107 VSS, 108 VDD, 120 VSS, 121 VDD, 130 VSS, 131 VDD, 143 PDR_ON, 144 VDD
part B pins: 7 PC13-WKUP2, 8 PC14-OSC32-IN, 9 PC15-OSC32-OUT, 23 PH0-OSC_IN, 24 PH1-OSC_OUT, 25 ~{RST}, 26 PC0, 27 PC1, 28 PC2, 29 PC3, 44 PC4, 45 PC5, 96 PC6, 97 PC7, 98 PC8, 99 PC9, 111 PC10, 112 PC11, 113 PC12, 138 BOOT0
part C pins: 34 PA0-WKUP1, 35 PA1, 36 PA2, 37 PA3, 40 PA4, 41 PA5, 42 PA6, 43 PA7, 100 PA8, 101 PA9, 102 PA10, 103 PA11, 104 PA12, 105 PA13, 109 PA14, 110 PA15
part D pins: 46 PB0, 47 PB1, 48 PB2/BOOT1, 69 PB10, 70 PB11, 73 PB12, 74 PB13, 75 PB14, 76 PB15, 133 PB3, 134 PB4, 135 PB5, 136 PB6, 137 PB7, 139 PB8, 140 PB9
part E pins: 77 PD8, 78 PD9, 79 PD10, 80 PD11, 81 PD12, 82 PD13, 85 PD14, 86 PD15, 114 PD0, 115 PD1, 116 PD2, 117 PD3, 118 PD4, 119 PD5, 122 PD6, 123 PD7
part F pins: 1 PE2, 2 PE3, 3 PE4, 4 PE5, 5 PE6, 58 PE7, 59 PE8, 60 PE9, 63 PE10, 64 PE11, 65 PE12, 66 PE13, 67 PE14, 68 PE15, 141 PE0, 142 PE1
part G pins: 10 PF0, 11 PF1, 12 PF2, 13 PF3, 14 PF4, 15 PF5, 18 PF6, 19 PF7, 20 PF8, 21 PF9, 22 PF10, 49 PF11, 50 PF12, 53 PF13, 54 PF14, 55 PF15
part H pins: 56 PG0, 57 PG1, 87 PG2, 88 PG3, 89 PG4, 90 PG5, 91 PG6, 92 PG7, 93 PG8, 124 PG9, 125 PG10, 126 PG11, 127 PG12, 128 PG13, 129 PG14, 132 PG15

## STM32L011D3P6
designator U?
pins: 1 BOOT0, 2 PC14, 3 PC15, 4 NRST, 5 PA0, 6 PA1, 7 PA4, 8 PA7, 9 VSS, 10 VDD, 11 PA9, 12 PA10, 13 PA13, 14 PA14

## STM32L071CZ
designator U?
Designator: U?
footprint UFQFPN32
pins: 1 VDD (power), 2 PC13 (io), 3 PC14 (io), 4 PC15 (io), 5 PH0 (io), 6 PH1 (io), 7 NRST (in), 8 VSSA (power), 9 VDDA (power), 10 PA0 (io), 11 PA1 (io), 12 PA2 (io), 13 PA3 (io), 14 PA4 (io), 15 PA5 (io), 16 PA6 (io), 17 PA7 (io), 18 PB0 (io), 19 PB1 (io), 20 PB2 (io), 21 PB10 (io), 22 PB11 (io), 23 VSS (power), 24 VDD (power), 25 PB12 (io), 26 PB13 (io), 27 PB14 (io), 28 PB15 (io), 29 PA8 (io), 30 PA9 (io), 31 PA10 (io), 32 PA11 (io), 33 PA12 (io), 34 PA13 (io), 35 VSS (power), 36 VDDIO2 (power), 37 PA14 (io), 38 PA15 (io), 39 PB3 (io), 40 PB4 (io), 41 PB5 (io), 42 PB6 (io), 43 PB7 (io), 44 BOOT0 (in), 45 PB8 (io), 46 PB9 (io), 47 VSS (power), 48 VDD (power)

## STM32L071KZU
designator U?
Designator: U?
footprint UFQFPN32
pins: 1 PC14 (io), 2 PC15 (io), 3 NRST, 4 VSSA (power), 5 VDDA (power), 6 PA0 (io) "SYS_WKUP1/COMP1_IN(-)/UART4_TX", 7 PA1 (io), 8 PA2 (io), 9 PA3 (io), 10 PA4 (io), 11 PA5 (io), 12 PA6 (io), 13 PA7 (io), 14 PB0 (io), 15 PB1 (io), 16 VSS (power), 17 VDD (power), 18 PA8 (io), 19 PA9 (io), 20 PA10 (io), 21 PA11 (io), 22 PA12 (io), 23 PA13 (io), 24 VDDIO2 (power), 25 PA14 (io), 26 PB4 (io), 27 PB5 (io), 28 PB6 (io), 29 PB7 (io), 30 BOOT0 (in), 31 VSS (power), 32 VDD (power), 33 VSS PAD (power)

## STM32L071KZU_Oig
designator U?
Designator: U?
footprint UFQFPN32
pins: 1 PC14-OSC32_IN (io), 2 PC15-OSC32_OUT (io), 3 NRST, 4 VSSA (power), 5 VDDA (power), 6 PA0/SYS_WKUP1/UART4_TX (io) "SYS_WKUP1/COMP1_IN(-)/UART4_TX", 7 PA1/UART4_RX (io), 8 PA2/LPUART1_TX (io), 9 PA3/LPUART1_RX (io), 10 PA4 (io), 11 PA5/SPI1_SCK (io), 12 PA6/SPI1_MISO (io), 13 PA7/SPI1_MOSI (io), 14 PB0/ADC_IN8 (io), 15 PB1/LPUART1_DE (io), 16 VSS (power), 17 VDD (power), 18 PA8/I2C3_SCL (io), 19 PA9/USART1_TX (io), 20 PA10/USART1_RX (io), 21 PA11/USART1_CTS (io), 22 PA12/USART1_RTS (io), 23 PA13/SWDIO (io), 24 VDDIO2 (power), 25 PA14/SWCLK (io), 26 PB4/I2C3_SDA (io), 27 PB5 (io), 28 PB6/I2C1_SCL (io), 29 PB7/I2C1_SDA (io), 30 BOOT0 (in), 31 VSS (power), 32 VDD (power), 33 VSS PAD (power)

## STM32L475RET6
designator U?
STM32 cortex M4 series; Revised: 120406; target: BASE
footprint LQFP64_10x10 (64 pin LQFP (10 x 10))
pins: 1 VBAT, 2 PC13, 3 PC14, 4 PC15, 5 PF0, 6 PF1, 7 ~{NRST}, 8 PC0, 9 PC1, 10 PC2, 11 PC3, 12 VSSA/VREF-, 13 VDDA/VREF+, 14 PA0, 15 PA1, 16 PA2, 17 PA3, 18 VSS, 19 VDD, 20 PA4, 21 PA5, 22 PA6, 23 PA7, 24 PC4, 25 PC5, 26 PB0, 27 PB1, 28 PB2, 29 PB10, 30 PB11, 31 VSS, 32 VDD, 33 PB12, 34 PB13, 35 PB14, 36 PB15, 37 PC6, 38 PC7, 39 PC8, 40 PC9, 41 PA8, 42 PA9, 43 PA10, 44 PA11, 45 PA12, 46 PA13, 47 VSS, 48 VDDUSB, 49 PA14, 50 PA15, 51 PC10, 52 PC11, 53 PC12, 54 PD2, 55 PB3, 56 PB4, 57 PB5, 58 PB6, 59 PB7, 60 BOOT0, 61 PB8, 62 PB9, 63 VSS, 64 VDD

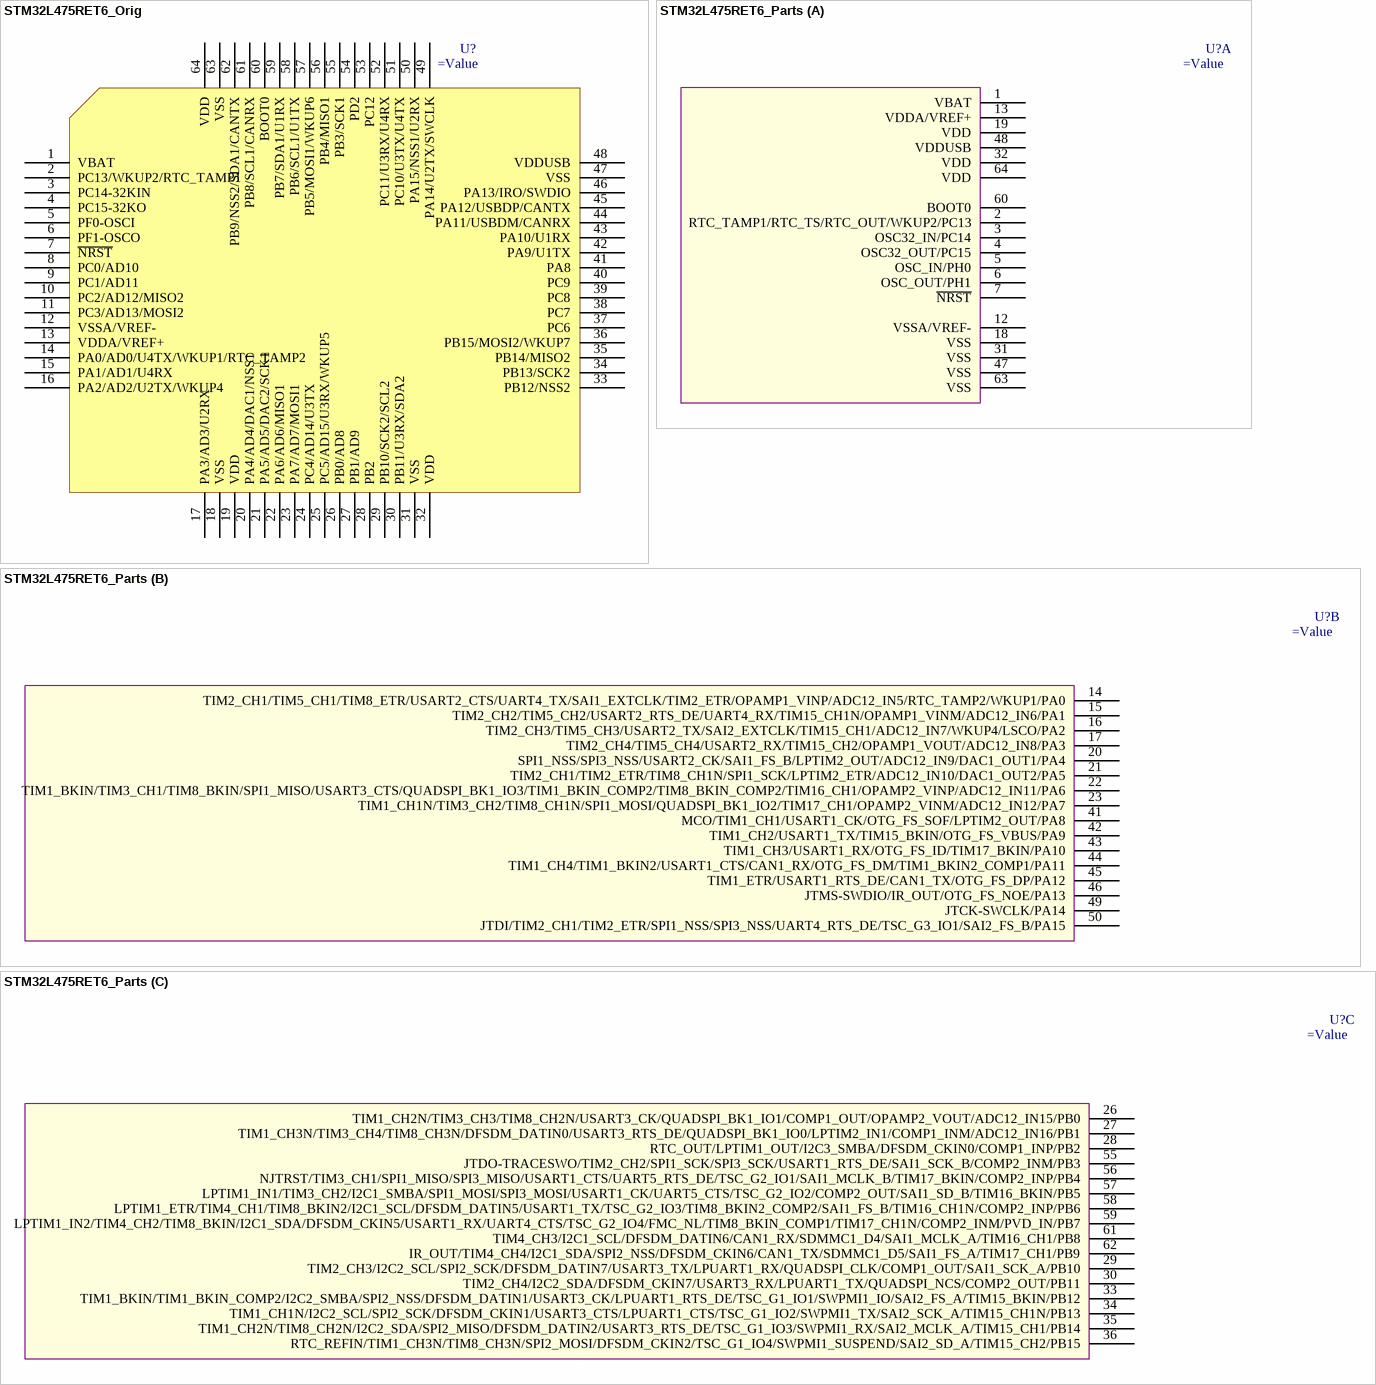
[diagram p6: symbols STM32L475RET6_Orig to STM32L475RET6_Parts]

## STM32L475RET6_Orig
designator U?
STM32 cortex M4 series; Revised: 120406; target: BASE
footprint LQFP64_10x10 (64 pin LQFP (10 x 10))
pins: 1 VBAT, 2 PC13/WKUP2/RTC_TAMP1, 3 PC14-32KIN, 4 PC15-32KO, 5 PF0-OSCI, 6 PF1-OSCO, 7 ~{NRST}, 8 PC0/AD10, 9 PC1/AD11, 10 PC2/AD12/MISO2, 11 PC3/AD13/MOSI2, 12 VSSA/VREF-, 13 VDDA/VREF+, 14 PA0/AD0/U4TX/WKUP1/RTC_TAMP2, 15 PA1/AD1/U4RX, 16 PA2/AD2/U2TX/WKUP4, 17 PA3/AD3/U2RX, 18 VSS, 19 VDD, 20 PA4/AD4/DAC1/NSS1, 21 PA5/AD5/DAC2/SCK1, 22 PA6/AD6/MISO1, 23 PA7/AD7/MOSI1, 24 PC4/AD14/U3TX, 25 PC5/AD15/U3RX/WKUP5, 26 PB0/AD8, 27 PB1/AD9, 28 PB2, 29 PB10/SCK2/SCL2, 30 PB11/U3RX/SDA2, 31 VSS, 32 VDD, 33 PB12/NSS2, 34 PB13/SCK2, 35 PB14/MISO2, 36 PB15/MOSI2/WKUP7, 37 PC6, 38 PC7, 39 PC8, 40 PC9, 41 PA8, 42 PA9/U1TX, 43 PA10/U1RX, 44 PA11/USBDM/CANRX, 45 PA12/USBDP/CANTX, 46 PA13/IRO/SWDIO, 47 VSS, 48 VDDUSB, 49 PA14/U2TX/SWCLK, 50 PA15/NSS1/U2RX, 51 PC10/U3TX/U4TX, 52 PC11/U3RX/U4RX, 53 PC12, 54 PD2, 55 PB3/SCK1, 56 PB4/MISO1, 57 PB5/MOSI1/WKUP6, 58 PB6/SCL1/U1TX, 59 PB7/SDA1/U1RX, 60 BOOT0, 61 PB8/SCL1/CANRX, 62 PB9/NSS2/SDA1/CANTX, 63 VSS, 64 VDD

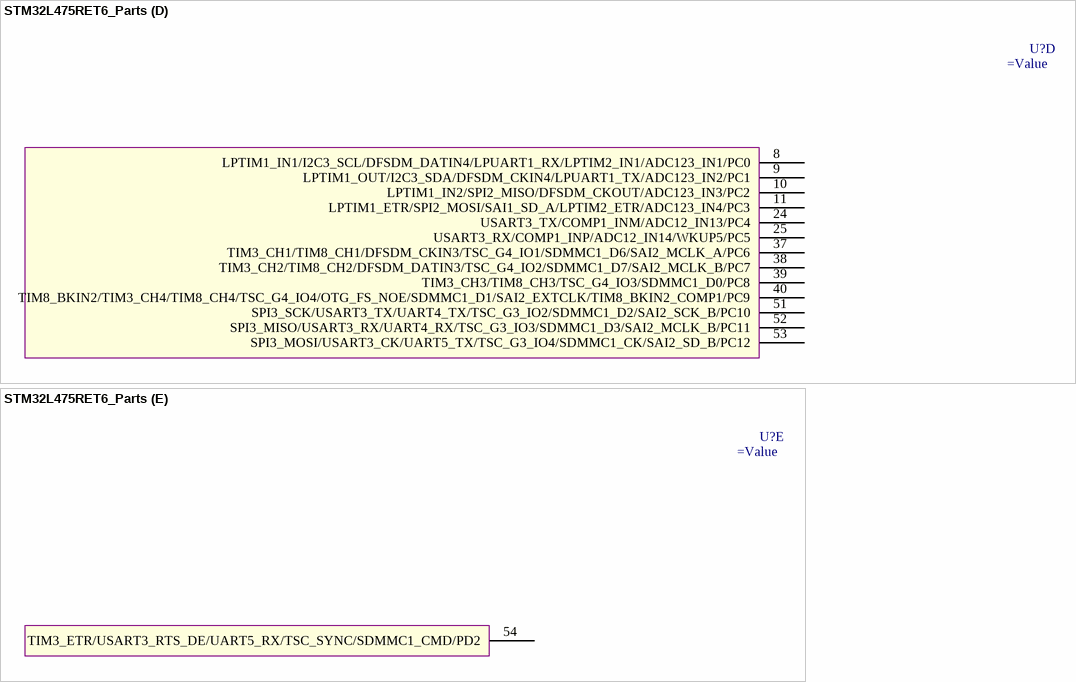
[diagram p7: symbol STM32L475RET6_Parts]

## STM32L475RET6_Parts
designator U?
STM32 cortex M4 series; Revised: 120406; target: BASE
footprint LQFP64_10x10 (64 pin LQFP (10 x 10))
part A pins: 1 VBAT, 2 RTC_TAMP1/RTC_TS/RTC_OUT/WKUP2/PC13, 3 OSC32_IN/PC14, 4 OSC32_OUT/PC15, 5 OSC_IN/PH0, 6 OSC_OUT/PH1, 7 ~{NRST}, 12 VSSA/VREF-, 13 VDDA/VREF+, 18 VSS, 19 VDD, 31 VSS, 32 VDD, 47 VSS, 48 VDDUSB, 60 BOOT0, 63 VSS, 64 VDD
part B pins: 14 TIM2_CH1/TIM5_CH1/TIM8_ETR/USART2_CTS/UART4_TX/SAI1_EXTCLK/TIM2_ETR/OPAMP1_VINP/ADC12_IN5/RTC_TAMP2/WKUP1/PA0, 15 TIM2_CH2/TIM5_CH2/USART2_RTS_DE/UART4_RX/TIM15_CH1N/OPAMP1_VINM/ADC12_IN6/PA1, 16 TIM2_CH3/TIM5_CH3/USART2_TX/SAI2_EXTCLK/TIM15_CH1/ADC12_IN7/WKUP4/LSCO/PA2, 17 TIM2_CH4/TIM5_CH4/USART2_RX/TIM15_CH2/OPAMP1_VOUT/ADC12_IN8/PA3, 20 SPI1_NSS/SPI3_NSS/USART2_CK/SAI1_FS_B/LPTIM2_OUT/ADC12_IN9/DAC1_OUT1/PA4, 21 TIM2_CH1/TIM2_ETR/TIM8_CH1N/SPI1_SCK/LPTIM2_ETR/ADC12_IN10/DAC1_OUT2/PA5, 22 TIM1_BKIN/TIM3_CH1/TIM8_BKIN/SPI1_MISO/USART3_CTS/QUADSPI_BK1_IO3/TIM1_BKIN_COMP2/TIM8_BKIN_COMP2/TIM16_CH1/OPAMP2_VINP/ADC12_IN11/PA6, 23 TIM1_CH1N/TIM3_CH2/TIM8_CH1N/SPI1_MOSI/QUADSPI_BK1_IO2/TIM17_CH1/OPAMP2_VINM/ADC12_IN12/PA7, 41 MCO/TIM1_CH1/USART1_CK/OTG_FS_SOF/LPTIM2_OUT/PA8, 42 TIM1_CH2/USART1_TX/TIM15_BKIN/OTG_FS_VBUS/PA9, 43 TIM1_CH3/USART1_RX/OTG_FS_ID/TIM17_BKIN/PA10, 44 TIM1_CH4/TIM1_BKIN2/USART1_CTS/CAN1_RX/OTG_FS_DM/TIM1_BKIN2_COMP1/PA11, 45 TIM1_ETR/USART1_RTS_DE/CAN1_TX/OTG_FS_DP/PA12, 46 JTMS-SWDIO/IR_OUT/OTG_FS_NOE/PA13, 49 JTCK-SWCLK/PA14, 50 JTDI/TIM2_CH1/TIM2_ETR/SPI1_NSS/SPI3_NSS/UART4_RTS_DE/TSC_G3_IO1/SAI2_FS_B/PA15
part C pins: 26 TIM1_CH2N/TIM3_CH3/TIM8_CH2N/USART3_CK/QUADSPI_BK1_IO1/COMP1_OUT/OPAMP2_VOUT/ADC12_IN15/PB0, 27 TIM1_CH3N/TIM3_CH4/TIM8_CH3N/DFSDM_DATIN0/USART3_RTS_DE/QUADSPI_BK1_IO0/LPTIM2_IN1/COMP1_INM/ADC12_IN16/PB1, 28 RTC_OUT/LPTIM1_OUT/I2C3_SMBA/DFSDM_CKIN0/COMP1_INP/PB2, 29 TIM2_CH3/I2C2_SCL/SPI2_SCK/DFSDM_DATIN7/USART3_TX/LPUART1_RX/QUADSPI_CLK/COMP1_OUT/SAI1_SCK_A/PB10, 30 TIM2_CH4/I2C2_SDA/DFSDM_CKIN7/USART3_RX/LPUART1_TX/QUADSPI_NCS/COMP2_OUT/PB11, 33 TIM1_BKIN/TIM1_BKIN_COMP2/I2C2_SMBA/SPI2_NSS/DFSDM_DATIN1/USART3_CK/LPUART1_RTS_DE/TSC_G1_IO1/SWPMI1_IO/SAI2_FS_A/TIM15_BKIN/PB12, 34 TIM1_CH1N/I2C2_SCL/SPI2_SCK/DFSDM_CKIN1/USART3_CTS/LPUART1_CTS/TSC_G1_IO2/SWPMI1_TX/SAI2_SCK_A/TIM15_CH1N/PB13, 35 TIM1_CH2N/TIM8_CH2N/I2C2_SDA/SPI2_MISO/DFSDM_DATIN2/USART3_RTS_DE/TSC_G1_IO3/SWPMI1_RX/SAI2_MCLK_A/TIM15_CH1/PB14, 36 RTC_REFIN/TIM1_CH3N/TIM8_CH3N/SPI2_MOSI/DFSDM_CKIN2/TSC_G1_IO4/SWPMI1_SUSPEND/SAI2_SD_A/TIM15_CH2/PB15, 55 JTDO-TRACESWO/TIM2_CH2/SPI1_SCK/SPI3_SCK/USART1_RTS_DE/SAI1_SCK_B/COMP2_INM/PB3, 56 NJTRST/TIM3_CH1/SPI1_MISO/SPI3_MISO/USART1_CTS/UART5_RTS_DE/TSC_G2_IO1/SAI1_MCLK_B/TIM17_BKIN/COMP2_INP/PB4, 57 LPTIM1_IN1/TIM3_CH2/I2C1_SMBA/SPI1_MOSI/SPI3_MOSI/USART1_CK/UART5_CTS/TSC_G2_IO2/COMP2_OUT/SAI1_SD_B/TIM16_BKIN/PB5, 58 LPTIM1_ETR/TIM4_CH1/TIM8_BKIN2/I2C1_SCL/DFSDM_DATIN5/USART1_TX/TSC_G2_IO3/TIM8_BKIN2_COMP2/SAI1_FS_B/TIM16_CH1N/COMP2_INP/PB6, 59 LPTIM1_IN2/TIM4_CH2/TIM8_BKIN/I2C1_SDA/DFSDM_CKIN5/USART1_RX/UART4_CTS/TSC_G2_IO4/FMC_NL/TIM8_BKIN_COMP1/TIM17_CH1N/COMP2_INM/PVD_IN/PB7, 61 TIM4_CH3/I2C1_SCL/DFSDM_DATIN6/CAN1_RX/SDMMC1_D4/SAI1_MCLK_A/TIM16_CH1/PB8, 62 IR_OUT/TIM4_CH4/I2C1_SDA/SPI2_NSS/DFSDM_CKIN6/CAN1_TX/SDMMC1_D5/SAI1_FS_A/TIM17_CH1/PB9
part D pins: 8 LPTIM1_IN1/I2C3_SCL/DFSDM_DATIN4/LPUART1_RX/LPTIM2_IN1/ADC123_IN1/PC0, 9 LPTIM1_OUT/I2C3_SDA/DFSDM_CKIN4/LPUART1_TX/ADC123_IN2/PC1, 10 LPTIM1_IN2/SPI2_MISO/DFSDM_CKOUT/ADC123_IN3/PC2, 11 LPTIM1_ETR/SPI2_MOSI/SAI1_SD_A/LPTIM2_ETR/ADC123_IN4/PC3, 24 USART3_TX/COMP1_INM/ADC12_IN13/PC4, 25 USART3_RX/COMP1_INP/ADC12_IN14/WKUP5/PC5, 37 TIM3_CH1/TIM8_CH1/DFSDM_CKIN3/TSC_G4_IO1/SDMMC1_D6/SAI2_MCLK_A/PC6, 38 TIM3_CH2/TIM8_CH2/DFSDM_DATIN3/TSC_G4_IO2/SDMMC1_D7/SAI2_MCLK_B/PC7, 39 TIM3_CH3/TIM8_CH3/TSC_G4_IO3/SDMMC1_D0/PC8, 40 TIM8_BKIN2/TIM3_CH4/TIM8_CH4/TSC_G4_IO4/OTG_FS_NOE/SDMMC1_D1/SAI2_EXTCLK/TIM8_BKIN2_COMP1/PC9, 51 SPI3_SCK/USART3_TX/UART4_TX/TSC_G3_IO2/SDMMC1_D2/SAI2_SCK_B/PC10, 52 SPI3_MISO/USART3_RX/UART4_RX/TSC_G3_IO3/SDMMC1_D3/SAI2_MCLK_B/PC11, 53 SPI3_MOSI/USART3_CK/UART5_TX/TSC_G3_IO4/SDMMC1_CK/SAI2_SD_B/PC12
part E pins: 54 TIM3_ETR/USART3_RTS_DE/UART5_RX/TSC_SYNC/SDMMC1_CMD/PD2